# Altium footprint library PASSIVE_SMD.PCBLIB: 249 footprints (part 2 of 16)
Each footprint in its own frame and in the unit in brackets; x right, y up, seen from the top. Pads: shape width x height; smd on the part's side, far side on the other; paste and mask are expansions set on the pad; w line width, h text height; cw(c..) or ccw(c..) is an arc to the next point about the centre after c.
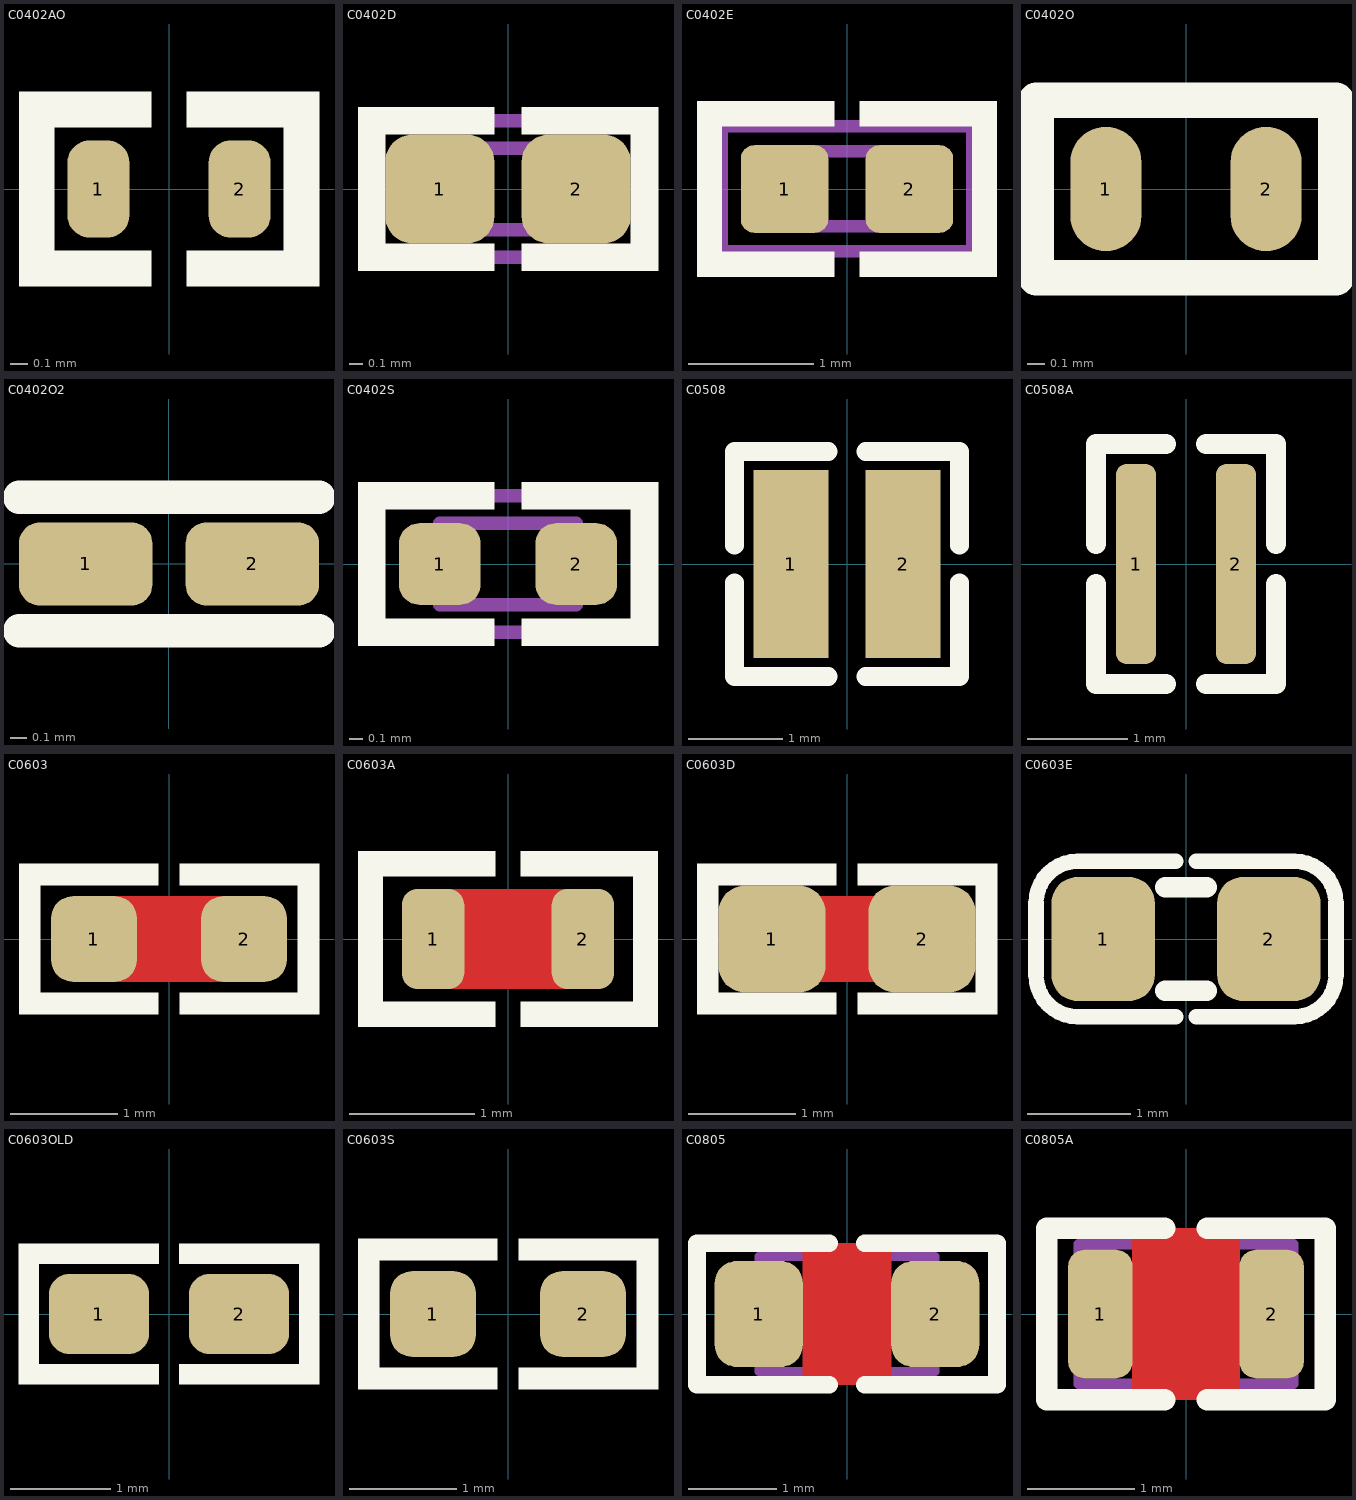
[diagram p1: the footprints below, top view; thin cyan lines are the x and y axes]

## C0402AO [mm] "CHIP Capacitor, 1.0X0.5mm, 0402, for PCBA optimized"
height 0.4
pads (2):
  rrect70% 0.35x0.55 smd mask+0.05: 1(-0.4,0) 2(0.4,0)
Top Overlay:
  region: 0.1,-0.35 0.1,-0.55 0.85,-0.55 0.85,-0.35
  region: 0.85,0.55 0.65,0.55 0.65,-0.55 0.85,-0.55
  region: 0.1,0.35 0.1,0.55 0.85,0.55 0.85,0.35
  region: -0.1,-0.35 -0.1,-0.55 -0.85,-0.55 -0.85,-0.35
  region: -0.85,0.55 -0.65,0.55 -0.65,-0.55 -0.85,-0.55
  region: -0.1,0.35 -0.1,0.55 -0.85,0.55 -0.85,0.35
3D body "User Library-0402C.step": height 0.36, standoff 0, extent -0.5,-0.265 0.5,0.265

## C0402D [mm] "CHIP Capacitor, 1.0X0.5mm, 0402, SMD (SolderMask Defined)"
height 0.4
pads (2):
  rrect50% 0.8x0.8 smd paste-2 mask-0.1: 1(-0.5,0) 2(0.5,0)
Top Overlay:
  region: -0.1,-0.4 -0.1,-0.6 -1.1,-0.6 -1.1,-0.4
  region: -0.1,0.4 -0.1,0.6 -1.1,0.6 -1.1,0.4
  region: -1.1,0.6 -0.9,0.6 -0.9,-0.6 -1.1,-0.6
  region: 1.1,0.6 0.9,0.6 0.9,-0.6 1.1,-0.6
  region: 0.1,0.4 0.1,0.6 1.1,0.6 1.1,0.4
  region: 0.1,-0.4 0.1,-0.6 1.1,-0.6 1.1,-0.4
Top Paste:
  region: 0.65,0.25 0.4,0.25 0.25,0 0.4,-0.25 0.65,-0.25 0.67,-0.25 0.707,-0.235 0.735,-0.207 0.75,-0.17 0.75,-0.15 0.75,0.151 0.75,0.171 0.735,0.207 0.706,0.235 0.67,0.25
  region: -0.65,0.25 -0.4,0.25 -0.25,0 -0.4,-0.25 -0.65,-0.25 -0.67,-0.25 -0.707,-0.235 -0.735,-0.207 -0.75,-0.17 -0.75,-0.15 -0.75,0.151 -0.75,0.171 -0.735,0.207 -0.706,0.235 -0.67,0.25
Mechanical 13:
  lines w0.1: -0.5,-0.3 0.5,-0.3 0.5,0.3 -0.5,0.3 -0.5,-0.3
Mechanical 15:
  lines w0.1: -1,-0.5 -1,0.5 1,0.5 1,-0.5 -1,-0.5
3D body "User Library-0402C.step": height 0.36, standoff 0, extent -0.5,-0.265 0.5,0.265

## C0402E [mm] "CHIP Capacitor, 1.0X0.5mm, 0402, EXPANDED PAD"
height 0.4
pads (2):
  rrect30% 0.7x0.7 smd paste-2 mask+0.075: 1(-0.5,0) 2(0.5,0)
Top Overlay:
  region: 1.2,0.7 1,0.7 1,-0.7 1.2,-0.7
  region: 0.1,0.5 0.1,0.7 1.2,0.7 1.2,0.5
  region: 0.1,-0.5 0.1,-0.7 1.2,-0.7 1.2,-0.5
  region: -0.1,-0.5 -0.1,-0.7 -1.2,-0.7 -1.2,-0.5
  region: -0.1,0.5 -0.1,0.7 -1.2,0.7 -1.2,0.5
  region: -1.2,0.7 -1,0.7 -1,-0.7 -1.2,-0.7
Top Paste:
  region: 0.4,-0.3 0.2,0 0.4,0.3 0.7,0.3 0.72,0.3 0.757,0.285 0.785,0.257 0.8,0.22 0.8,0.2 0.8,-0.2 0.8,-0.22 0.785,-0.257 0.757,-0.285 0.72,-0.3 0.7,-0.3
  region: -0.4,-0.3 -0.2,0 -0.4,0.3 -0.7,0.3 -0.72,0.3 -0.757,0.285 -0.785,0.257 -0.8,0.22 -0.8,0.2 -0.8,-0.2 -0.8,-0.22 -0.785,-0.257 -0.757,-0.285 -0.72,-0.3 -0.7,-0.3
Mechanical 13:
  lines w0.1: -0.5,-0.3 0.5,-0.3 0.5,0.3 -0.5,0.3 -0.5,-0.3
Mechanical 15:
  lines w0.1: -1,-0.5 -1,0.5 1,0.5 1,-0.5 -1,-0.5
3D body "User Library-0402C.step": height 0.36, standoff 0, extent -0.5,-0.265 0.5,0.265

## C0402O [mm] "CHIP Capacitor, 1.0X0.5mm, 0402 OPTIMIZED"
height 0.4
pads (2):
  oval 0.4x0.7 smd mask+0.05: 1(-0.45,0) 2(0.45,0)
Top Overlay:
  lines w0.2: -0.844,-0.5 -0.844,0.5 0.844,0.5 0.844,-0.5 -0.844,-0.5
3D body "User Library-0402C.step": height 0.36, standoff 0, extent -0.5,-0.265 0.5,0.265

## C0402O2 [mm] "CHIP Capacitor, 1.0X0.5mm, 0402 OPTIMIZED"
height 0.4
pads (2):
  rrect50% 0.8x0.5 smd paste-0.25 mask+0.05: 1(-0.5,0) 2(0.5,0)
Top Overlay:
  lines w0.2: -0.9,-0.4 0.9,-0.4 ; -0.9,0.4 0.9,0.4
Top Paste:
  region: -0.65,0.25 -0.4,0.25 -0.25,0 -0.4,-0.25 -0.65,-0.25 -0.67,-0.25 -0.707,-0.235 -0.735,-0.207 -0.75,-0.17 -0.75,-0.15 -0.75,0.151 -0.75,0.171 -0.735,0.207 -0.706,0.235 -0.67,0.25
  region: 0.65,0.25 0.4,0.25 0.25,0 0.4,-0.25 0.65,-0.25 0.67,-0.25 0.707,-0.235 0.735,-0.207 0.75,-0.17 0.75,-0.15 0.75,0.151 0.75,0.171 0.735,0.207 0.706,0.235 0.67,0.25
3D body "User Library-0402C.step": height 0.36, standoff 0, extent -0.5,-0.265 0.5,0.265

## C0402S [mm] "CHIP Capacitor, 1.0X0.5mm, 0402, soldered"
height 0.4
pads (2):
  rrect50% 0.6x0.6 smd paste-1 mask+0.05: 1(-0.5,0) 2(0.5,0)
Top Overlay:
  region: 0.1,-0.4 0.1,-0.6 1.1,-0.6 1.1,-0.4
  region: 0.1,0.4 0.1,0.6 1.1,0.6 1.1,0.4
  region: 1.1,0.6 0.9,0.6 0.9,-0.6 1.1,-0.6
  region: -1.1,0.6 -0.9,0.6 -0.9,-0.6 -1.1,-0.6
  region: -0.1,0.4 -0.1,0.6 -1.1,0.6 -1.1,0.4
  region: -0.1,-0.4 -0.1,-0.6 -1.1,-0.6 -1.1,-0.4
Top Paste:
  region: 0.65,0.25 0.4,0.25 0.25,0 0.4,-0.25 0.65,-0.25 0.67,-0.25 0.707,-0.235 0.735,-0.207 0.75,-0.17 0.75,-0.15 0.75,0.151 0.75,0.171 0.735,0.207 0.706,0.235 0.67,0.25
  region: -0.65,0.25 -0.4,0.25 -0.25,0 -0.4,-0.25 -0.65,-0.25 -0.67,-0.25 -0.707,-0.235 -0.735,-0.207 -0.75,-0.17 -0.75,-0.15 -0.75,0.151 -0.75,0.171 -0.735,0.207 -0.706,0.235 -0.67,0.25
Mechanical 13:
  lines w0.1: -0.5,-0.3 0.5,-0.3 0.5,0.3 -0.5,0.3 -0.5,-0.3
Mechanical 15:
  lines w0.1: -1,-0.5 1,-0.5 1,0.5 -1,0.5 -1,-0.5
3D body "c0402_Cap.step": height 0.51, standoff 0, extent -0.73,-0.25 0.73,0.25

## C0508 [mm] "CHIP Capacitor, 1.3X2.0mm, 0508"
pads (2):
  rect 0.8x2 smd: 1(-0.6,0) 2(0.6,0)
Top Overlay:
  lines w0.2: -1.2,-0.2 -1.2,-1.2 -0.2,-1.2 ; -1.2,0.2 -1.2,1.2 -0.2,1.2 ; 0.2,-1.2 1.2,-1.2 1.2,-0.2 ; 0.2,1.2 1.2,1.2 1.2,0.2
3D body "User Library-Capacitor 0508.step": height 0.6, standoff 0, extent -0.635,-1 0.635,1

## C0508A [mm] "CHIP Capacitor, 1.3X2.0mm, 0508"
pads (2):
  rrect50% 0.4x2 smd: 1(-0.5,0) 2(0.5,0)
Top Overlay:
  lines w0.2: -0.9,-0.2 -0.9,-1.2 -0.2,-1.2 ; -0.9,0.2 -0.9,1.2 -0.2,1.2 ; 0.2,-1.2 0.9,-1.2 0.9,-0.2 ; 0.2,1.2 0.9,1.2 0.9,0.2
3D body "User Library-Capacitor 0508.step": height 0.6, standoff 0, extent -0.635,-1 0.635,1

## C0603 [mm] "CHIP Capacitor, 1.6X0.8mm, 0603 OPTIMIZED"
height 0.6
pads (2):
  rrect50% 0.8x0.8 smd paste-5 mask+0.075: 1(-0.7,0) 2(0.7,0)
Top Layer:
  pour cut-out: -0.5,0.4 0.5,0.4 0.5,-0.4 -0.5,-0.4
Top Overlay:
  region: -0.1,-0.5 -0.1,-0.7 -1.4,-0.7 -1.4,-0.5
  region: -0.1,0.5 -0.1,0.7 -1.4,0.7 -1.4,0.5
  region: -1.4,0.7 -1.2,0.7 -1.2,-0.7 -1.4,-0.7
  region: 1.4,0.7 1.2,0.7 1.2,-0.7 1.4,-0.7
  region: 0.1,0.5 0.1,0.7 1.4,0.7 1.4,0.5
  region: 0.1,-0.5 0.1,-0.7 1.4,-0.7 1.4,-0.5
Top Paste:
  region: 0.7,0.35 0.63,0.35 0.502,0.297 0.403,0.198 0.35,0.07 0.35,0 0.35,-0.07 0.403,-0.198 0.502,-0.297 0.63,-0.35 0.7,-0.35 0.9,-0.35 0.93,-0.35 0.985,-0.327 1.027,-0.285 1.05,-0.23 1.05,-0.2 1.05,0.2 1.05,0.23 1.027,0.285 0.985,0.327 0.93,0.35 0.9,0.35
  region: -0.7,0.35 -0.63,0.35 -0.502,0.297 -0.403,0.198 -0.35,0.07 -0.35,0 -0.35,-0.07 -0.403,-0.198 -0.502,-0.297 -0.63,-0.35 -0.7,-0.35 -0.9,-0.35 -0.93,-0.35 -0.985,-0.327 -1.027,-0.285 -1.05,-0.23 -1.05,-0.2 -1.05,0.2 -1.05,0.23 -1.027,0.285 -0.985,0.327 -0.93,0.35 -0.9,0.35
3D body "User Library-CAPC1608X09.step": height 0.9, standoff 0, extent -0.8,-0.4 0.8,0.4

## C0603A [mm] "CHIP Capacitor, 1.6X0.8mm, 0603 for PCBA"
height 0.6
pads (2):
  rrect50% 0.5x0.8 smd mask+0.075: 1(-0.6,0) 2(0.6,0)
Top Layer:
  pour cut-out: -0.5,0.4 0.5,0.4 0.5,-0.4 -0.5,-0.4
Top Overlay:
  region: -1.2,0.7 -1,0.7 -1,-0.7 -1.2,-0.7
  region: -0.1,0.5 -0.1,0.7 -1.2,0.7 -1.2,0.5
  region: -0.1,-0.5 -0.1,-0.7 -1.2,-0.7 -1.2,-0.5
  region: 0.1,-0.5 0.1,-0.7 1.2,-0.7 1.2,-0.5
  region: 0.1,0.5 0.1,0.7 1.2,0.7 1.2,0.5
  region: 1.2,0.7 1,0.7 1,-0.7 1.2,-0.7
3D body "User Library-CAPC1608X09.step": height 0.9, standoff 0, extent -0.8,-0.4 0.8,0.4

## C0603D [mm] "CHIP Capacitor, 1.6X0.8mm, 0603 , SMD (SolderMask Defined)"
height 0.6
pads (2):
  rrect50% 1x1 smd paste-0.5 mask-0.1: 1(-0.7,0) 2(0.7,0)
Top Layer:
  pour cut-out: -0.5,0.4 0.5,0.4 0.5,-0.4 -0.5,-0.4
Top Overlay:
  region: -0.1,-0.5 -0.1,-0.7 -1.4,-0.7 -1.4,-0.5
  region: -0.1,0.5 -0.1,0.7 -1.4,0.7 -1.4,0.5
  region: -1.4,0.7 -1.2,0.7 -1.2,-0.7 -1.4,-0.7
  region: 1.4,0.7 1.2,0.7 1.2,-0.7 1.4,-0.7
  region: 0.1,0.5 0.1,0.7 1.4,0.7 1.4,0.5
  region: 0.1,-0.5 0.1,-0.7 1.4,-0.7 1.4,-0.5
Top Paste:
  region: -0.4,-0.05 -0.4,0.05 -0.4,0.12 -0.453,0.248 -0.552,0.347 -0.68,0.4 -0.75,0.4 -0.85,0.4 -0.9,0.4 -0.992,0.362 -1.062,0.292 -1.1,0.2 -1.1,0.15 -1.1,-0.15 -1.1,-0.2 -1.062,-0.292 -0.992,-0.362 -0.9,-0.4 -0.85,-0.4 -0.75,-0.4 -0.68,-0.4 -0.552,-0.347 -0.453,-0.248 -0.4,-0.12
  region: 0.4,-0.05 0.4,0.05 0.4,0.12 0.453,0.248 0.552,0.347 0.68,0.4 0.75,0.4 0.85,0.4 0.9,0.4 0.992,0.362 1.062,0.292 1.1,0.2 1.1,0.15 1.1,-0.15 1.1,-0.2 1.062,-0.292 0.992,-0.362 0.9,-0.4 0.85,-0.4 0.75,-0.4 0.68,-0.4 0.552,-0.347 0.453,-0.248 0.4,-0.12
3D body "User Library-CAPC1608X09.step": height 0.9, standoff 0, extent -0.8,-0.4 0.8,0.4

## C0603E [mm] "CHIP Capacitor, 1.6X0.8mm, EXPANDED PAD"
height 0.6
pads (2):
  rrect50% 1x1.2 smd paste-0.5 mask+0.05: 1(-0.8,0) 2(0.8,0)
Top Overlay:
  lines w0.15: -0.1,-0.75 -1.05,-0.75 cw(c-1.05,-0.35) -1.45,-0.35 -1.45,0.35 cw(c-1.05,0.35) -1.05,0.75 -0.1,0.75 ; 0.1,-0.75 1.05,-0.75 ccw(c1.05,-0.35) 1.45,-0.35 1.45,0.35 ccw(c1.05,0.35) 1.05,0.75 0.1,0.75
  lines w0.2: -0.2,-0.5 0.2,-0.5 ; -0.2,0.5 0.2,0.5
Top Paste:
  region: -0.35,-0.1 -0.35,0.1 -0.35,0.16 -0.396,0.27 -0.48,0.354 -0.59,0.4 -0.65,0.4 -1.1,0.4 -1.13,0.4 -1.185,0.377 -1.227,0.335 -1.25,0.28 -1.25,0.25 -1.25,-0.25 -1.25,-0.28 -1.227,-0.335 -1.185,-0.377 -1.13,-0.4 -1.1,-0.4 -0.65,-0.4 -0.59,-0.4 -0.48,-0.354 -0.396,-0.27 -0.35,-0.16
  region: 0.35,-0.1 0.35,0.1 0.35,0.16 0.396,0.27 0.48,0.354 0.59,0.4 0.65,0.4 1.1,0.4 1.13,0.4 1.185,0.377 1.227,0.335 1.25,0.28 1.25,0.25 1.25,-0.25 1.25,-0.28 1.227,-0.335 1.185,-0.377 1.13,-0.4 1.1,-0.4 0.65,-0.4 0.59,-0.4 0.48,-0.354 0.396,-0.27 0.35,-0.16
3D body "User Library-CAPC1608X09.step": height 0.9, standoff 0, extent -0.8,-0.4 0.8,0.4

## C0603OLD [mm] "CHIP Capacitor, 1.6X0.8mm, 0603"
height 0.6
pads (2):
  rrect50% 1x0.8 smd paste-0.4 mask+0.05: 1(-0.7,0) 2(0.7,0)
Top Overlay:
  region: 0.1,-0.5 0.1,-0.7 1.5,-0.7 1.5,-0.5
  region: 0.1,0.5 0.1,0.7 1.5,0.7 1.5,0.5
  region: 1.5,0.7 1.3,0.7 1.3,-0.7 1.5,-0.7
  region: -1.5,0.7 -1.3,0.7 -1.3,-0.7 -1.5,-0.7
  region: -0.1,0.5 -0.1,0.7 -1.5,0.7 -1.5,0.5
  region: -0.1,-0.5 -0.1,-0.7 -1.5,-0.7 -1.5,-0.5
Top Paste:
  region: -0.7,0.35 -0.63,0.35 -0.502,0.297 -0.403,0.198 -0.35,0.07 -0.35,0 -0.35,-0.07 -0.403,-0.198 -0.502,-0.297 -0.63,-0.35 -0.7,-0.35 -0.9,-0.35 -0.93,-0.35 -0.985,-0.327 -1.027,-0.285 -1.05,-0.23 -1.05,-0.2 -1.05,0.2 -1.05,0.23 -1.027,0.285 -0.985,0.327 -0.93,0.35 -0.9,0.35
  region: 0.7,0.35 0.63,0.35 0.502,0.297 0.403,0.198 0.35,0.07 0.35,0 0.35,-0.07 0.403,-0.198 0.502,-0.297 0.63,-0.35 0.7,-0.35 0.9,-0.35 0.93,-0.35 0.985,-0.327 1.027,-0.285 1.05,-0.23 1.05,-0.2 1.05,0.2 1.05,0.23 1.027,0.285 0.985,0.327 0.93,0.35 0.9,0.35
3D body "User Library-CAPC1608X09.step": height 0.9, standoff 0, extent -0.8,-0.4 0.8,0.4

## C0603S [mm] "CHIP Capacitor, 1.6X0.8mm, 0603, soldered"
height 0.6
pads (2):
  rrect50% 0.8x0.8 smd paste-5 mask+0.075: 1(-0.7,0) 2(0.7,0)
Top Overlay:
  region: -0.1,-0.5 -0.1,-0.7 -1.4,-0.7 -1.4,-0.5
  region: -0.1,0.5 -0.1,0.7 -1.4,0.7 -1.4,0.5
  region: -1.4,0.7 -1.2,0.7 -1.2,-0.7 -1.4,-0.7
  region: 1.4,0.7 1.2,0.7 1.2,-0.7 1.4,-0.7
  region: 0.1,0.5 0.1,0.7 1.4,0.7 1.4,0.5
  region: 0.1,-0.5 0.1,-0.7 1.4,-0.7 1.4,-0.5
Top Paste:
  region: -0.7,0.35 -0.63,0.35 -0.502,0.297 -0.403,0.198 -0.35,0.07 -0.35,0 -0.35,-0.07 -0.403,-0.198 -0.502,-0.297 -0.63,-0.35 -0.7,-0.35 -0.9,-0.35 -0.93,-0.35 -0.985,-0.327 -1.027,-0.285 -1.05,-0.23 -1.05,-0.2 -1.05,0.2 -1.05,0.23 -1.027,0.285 -0.985,0.327 -0.93,0.35 -0.9,0.35
  region: 0.7,0.35 0.63,0.35 0.502,0.297 0.403,0.198 0.35,0.07 0.35,0 0.35,-0.07 0.403,-0.198 0.502,-0.297 0.63,-0.35 0.7,-0.35 0.9,-0.35 0.93,-0.35 0.985,-0.327 1.027,-0.285 1.05,-0.23 1.05,-0.2 1.05,0.2 1.05,0.23 1.027,0.285 0.985,0.327 0.93,0.35 0.9,0.35
3D body "c0603_Cap.step": height 0.8, standoff 0, extent -1.23,-0.4 1.23,0.4

## C0805 [mm] "CHIP Capacitor, 2.0X1.3mm, 0805"
pads (2):
  rrect50% 1x1.2 smd paste-0.1 mask+0.075: 1(-1,0) 2(1,0)
Top Layer:
  pour cut-out: -0.5,0.8 0.5,0.8 0.5,-0.8 -0.5,-0.8
Top Overlay:
  lines w0.2: -0.2,-0.8 -1.7,-0.8 -1.7,0.8 -0.2,0.8 ; 0.2,-0.8 1.7,-0.8 1.7,0.8 0.2,0.8
Mechanical 13:
  lines w0.1: -1,-0.65 -1,0.65 1,0.65 1,-0.65 -1,-0.65
3D body "User Library-CAPC2013X10.step": height 1, standoff 0, extent -1,-0.625 1,0.625

## C0805A [mm] "CHIP Capacitor, 2.0X1.3mm, 0805, for PCBA"
pads (2):
  rrect50% 0.6x1.2 smd mask+0.075: 1(-0.8,0) 2(0.8,0)
Top Layer:
  pour cut-out: -0.5,0.8 0.5,0.8 0.5,-0.8 -0.5,-0.8
Top Overlay:
  lines w0.2: -0.2,-0.8 -1.3,-0.8 -1.3,0.8 -0.2,0.8 ; 0.2,-0.8 1.3,-0.8 1.3,0.8 0.2,0.8
Mechanical 13:
  lines w0.1: -1,-0.65 1,-0.65 1,0.65 -1,0.65 -1,-0.65
3D body "User Library-CAPC2013X10.step": height 1, standoff 0, extent -1,-0.625 1,0.625